# EAGLE library part OPA4388 (library DAQ_24bit_Hardware)
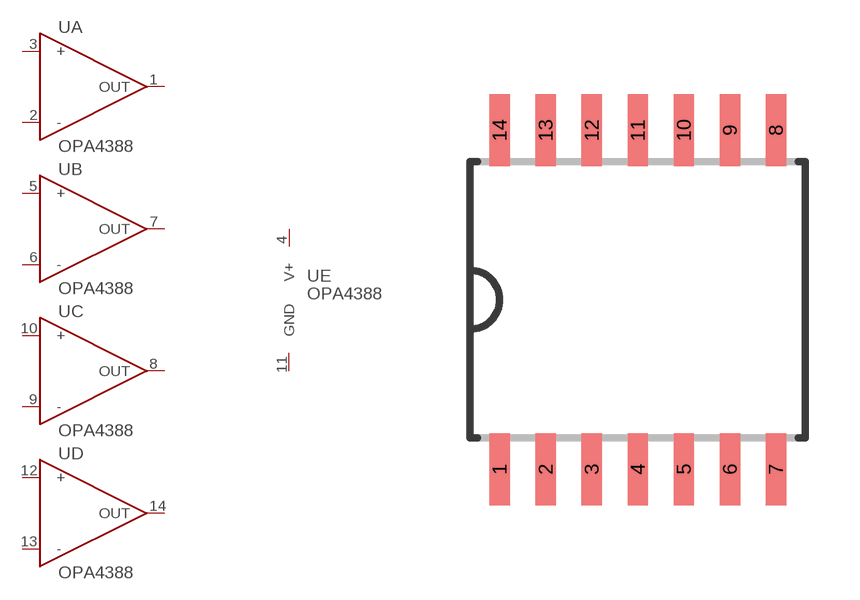
[diagram p4: symbol with the pads of SOIC14; footprint SOIC14]

Designator prefix U; gates A=OPA4388 B=OPA4388 C=OPA4388 D=OPA4388 E=V+_GND

## OPA4388  [SOIC14]
1  A:OUT
2  A:-
3  A:+
4  E:V+  pwr
5  B:+
6  B:-
7  B:OUT
8  C:OUT
9  C:-
10  C:+
11  E:GND  pwr
12  D:+
13  D:-
14  D:OUT

## Footprint SOIC14 (pad centres in mm)
smd 0.559 x 1.981: 1 -4.445,-4.674; 2 -3.175,-4.674; 3 -1.905,-4.674; 4 -0.635,-4.674; 5 0.635,-4.674; 6 1.905,-4.674; 7 3.175,-4.674; 8 3.175,4.674; 9 1.905,4.674; 10 0.635,4.674; 11 -0.635,4.674; 12 -1.905,4.674; 13 -3.175,4.674; 14 -4.445,4.674